# EAGLE library part SLIDER_PASSIVE_8SEG (library zephod-components)
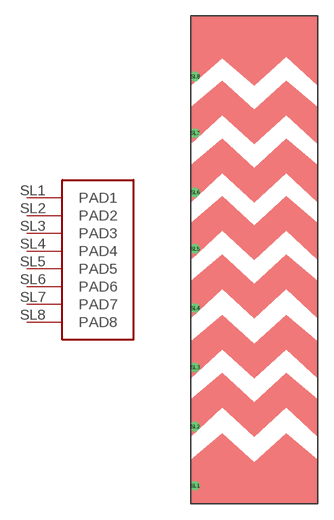
[diagram p6: symbol with the pads of SLIDER_PASSIVE_8SEG_12MM; footprint SLIDER_PASSIVE_8SEG_12MM]

Designator prefix -

## SLIDER_PASSIVE_8SEG  [SLIDER_PASSIVE_8SEG_12MM]
SL1  PAD1
SL2  PAD2
SL3  PAD3
SL4  PAD4
SL5  PAD5
SL6  PAD6
SL7  PAD7
SL8  PAD8

## Footprint SLIDER_PASSIVE_8SEG_12MM (pad centres in mm)
Slider, Passive Type, Eight (8) Segments, 12mm wide Source : http://www.PatternAgents.com Github : https://github.com/PatternAgents License : http://creativecommons.org/licenses/by-sa/3.1/ (Creative Commons 3.1) THIS SOFTWARE IS PROVIDED BY THE CONTRIBUTORS "AS IS" AND WITHOUT ANY EXPRESS OR IMPLIED WARRANTIES, INCLUDING, BUT NOT LIMITED TO, THE IMPLIED WARRANTIES OF MERCHANTABILITY AND FITNESS FOR A PARTICULAR PURPOSE ARE DISCLAIMED. IN NO EVENT SHALL THE COPYRIGHT OWNER OR CONTRIBUTORS BE LIABLE FOR ANY DIRECT, INDIRECT, INCIDENTAL, SPECIAL, EXEMPLARY, OR CONSEQUENTIAL DAMAGES (INCLUDING, BUT NOT LIMITED TO, PROCUREMENT OF SUBSTITUTE GOODS OR SERVICES; LOSS OF USE, DATA, OR PROFITS; OR BUSINESS INTERRUPTION) HOWEVER CAUSED AND ON ANY THEORY OF LIABILITY, WHETHER IN CONTRACT, STRICT LIABILITY, OR TORT (INCLUDING NEGLIGENCE OR OTHERWISE) ARISING IN ANY WAY OUT OF THE USE OF THIS SOFTWARE, EVEN IF ADVISED OF THE POSSIBILITY OF SUCH DAMAGE.
drill 0.356: SL1 -5.588,-20.32; SL2 -5.588,-14.732; SL3 -5.588,-9.144; SL4 -5.588,-3.556; SL5 -5.588,2.032; SL6 -5.588,7.366; SL7 -5.588,12.954; SL8 -5.588,18.288